# Altium integrated library AD8065ART-R2.IntLib: 1 symbol
Pins are listed as number, name and electrical type; pins without a type are passive.

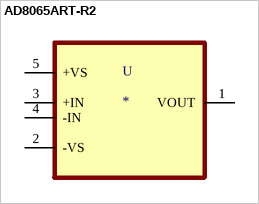
[diagram p0: symbol AD8065ART-R2]

## AD8065ART-R2
designator U
Усилитель обратной связи по напряжению 1 цепь рельс-рельс SOT-23-5; MP: AD8065ART-R2; MF: Analog Devices
footprint SOT95P290X145-5N
pins: 1 VOUT, 2 -VS (power), 3 +IN, 4 -IN, 5 +VS (power)